# EAGLE library part 23A1024/23LC1024 (library PP_DigitalIC)
Manufacturer Part #: 23A1024/23LC1024 Manufacturer: Microchip Technology Description: SRAM 1024K 1.8V SPI SERIAL SRAM SQI
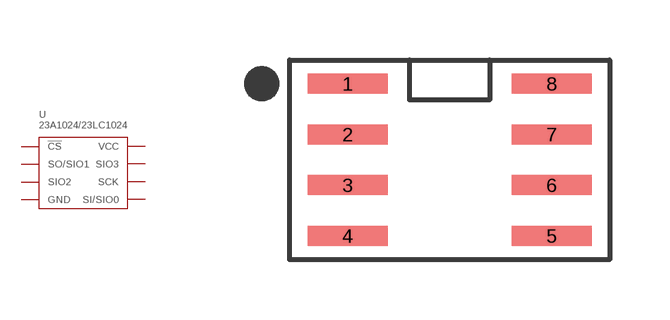
[diagram p10: symbol with the pads of 23A1024_SOIC-8; footprint 23A1024_SOIC-8]

Designator prefix U

## 23A1024/23LC1024-I/SN  [23A1024_SOIC-8]
1  CS'
2  SO/SIO1
3  SIO2
4  GND
5  SI/SIO0
6  SCK
7  SIO3
8  VCC

## Footprint 23A1024_SOIC-8 (pad centres in mm)
smd 2 x 0.5: 1 -2.55,1.905; 2 -2.55,0.635; 3 -2.55,-0.635; 4 -2.55,-1.905; 5 2.55,-1.905; 6 2.55,-0.635; 7 2.55,0.635; 8 2.55,1.905